# Altium schematic symbol library TM1637__SOP_.SchLib: 1 symbol
Pins are listed as number, name and electrical type; pins without a type are passive.

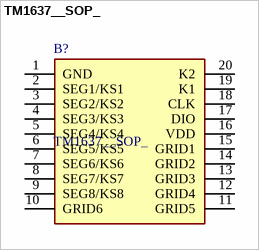
[diagram p0: symbol TM1637__SOP_]

## TM1637__SOP_
designator B?
LED Drive Control Special Circuit; Manufacturer_Name: TITAN MICRO ELECTRONICS; Manufacturer_Part_Number: TM1637 (SOP); Geometry.Height: 2.8mm; Mouser Part Number: *; Mouser Price/Stock: *; Arrow Part Number: *; Arrow Price/Stock: *; Datasheet Link: https://www.mcielectronics.cl/website_MCI/static/documents/Datasheet_TM1637.pdf
footprint SOIC127P1045X280-20N
pins: 1 GND, 2 SEG1/KS1, 3 SEG2/KS2, 4 SEG3/KS3, 5 SEG4/KS4, 6 SEG5/KS5, 7 SEG6/KS6, 8 SEG7/KS7, 9 SEG8/KS8, 10 GRID6, 11 GRID5, 12 GRID4, 13 GRID3, 14 GRID2, 15 GRID1, 16 VDD, 17 DIO, 18 CLK, 19 K1, 20 K2